# EAGLE library part 61003418321 (library Wuerth_Elektronik_eiCan_Pin_&_Socked_Headers_v1.3)
WR-PHD 2.54mm SMT Pin Header, 34 Pins
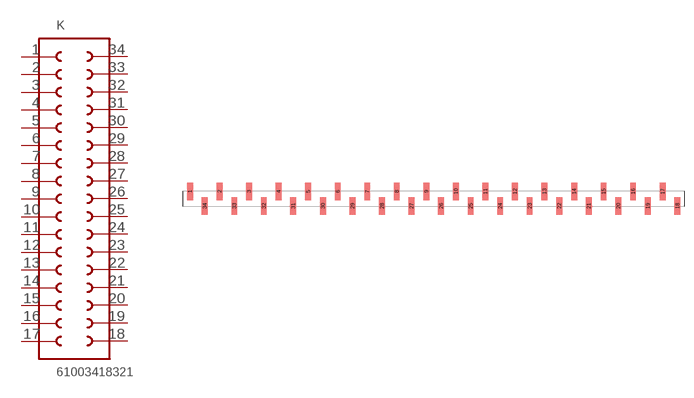
[diagram p88: symbol with the pads of 61003418321; footprint 61003418321]

Designator prefix K

## 61003418321  [61003418321]
1  1  pas
2  2  pas
3  3  pas
4  4  pas
5  5  pas
6  6  pas
7  7  pas
8  8  pas
9  9  pas
10  10  pas
11  11  pas
12  12  pas
13  13  pas
14  14  pas
15  15  pas
16  16  pas
17  17  pas
18  18  pas
19  19  pas
20  20  pas
21  21  pas
22  22  pas
23  23  pas
24  24  pas
25  25  pas
26  26  pas
27  27  pas
28  28  pas
29  29  pas
30  30  pas
31  31  pas
32  32  pas
33  33  pas
34  34  pas

## Footprint 61003418321 (pad centres in mm)
WR-PHD 2.54mm SMT Pin Header, 34 Pins
smd 1 x 3: 1 -41.91,1.25; 2 -36.83,1.25; 3 -31.75,1.25; 4 -26.67,1.25; 5 -21.59,1.25; 6 -16.51,1.25; 7 -11.43,1.25; 8 -6.35,1.25; 9 -1.27,1.25; 10 3.81,1.25; 11 8.89,1.25; 12 13.97,1.25; 13 19.05,1.25; 14 24.16,1.25; 15 29.21,1.25; 16 34.29,1.25; 17 39.37,1.25; 18 41.91,-1.25; 19 36.83,-1.25; 20 31.75,-1.25; 21 26.67,-1.25; 22 21.59,-1.25; 23 16.51,-1.25; 24 11.43,-1.25; 25 6.35,-1.25; 26 1.27,-1.25; 27 -3.81,-1.25; 28 -8.89,-1.25; 29 -13.97,-1.25; 30 -19.05,-1.25; 31 -24.16,-1.25; 32 -29.21,-1.25; 33 -34.29,-1.25; 34 -39.37,-1.25